# Altium footprint library XAL50.PcbLib: 8 footprints
Each footprint in its own frame and in the unit in brackets; x right, y up, seen from the top. Pads: shape width x height; smd on the part's side, far side on the other; paste and mask are expansions set on the pad; w line width, h text height; cw(c..) or ccw(c..) is an arc to the next point about the centre after c.
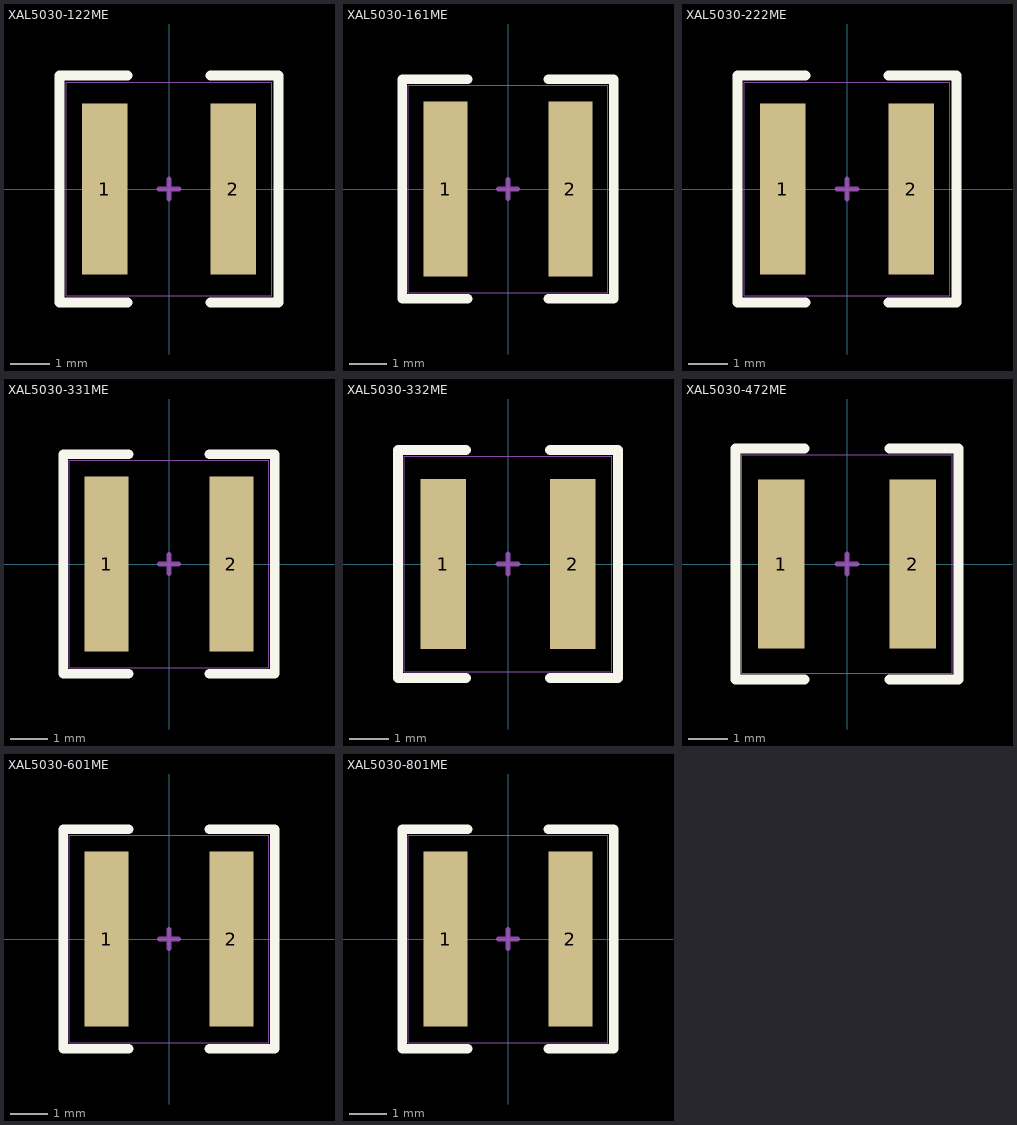
[diagram p0: the footprints below, top view; thin cyan lines are the x and y axes]

## XAL5030-122ME [mil]
pads (2):
  rect 46x173 smd: 1(-65,0) 2(65,0)
Top Overlay:
  lines w10: -42,-114.5 -110.5,-114.5 -110.5,114.5 -42,114.5 ; 42,-114.5 110.5,-114.5 110.5,114.5 42,114.5
Mechanical 13:
  lines w5: -10,0 10,0 ; 0,-10 0,10
Mechanical 14:
  lines w1: -104,-108 -104,108 104,108 104,-108 -104,-108
3D body: height 122.11, standoff 0.06, extent -107.88,-111.81 107.87,111.81

## XAL5030-161ME [mil]
pads (2):
  rect 46x183 smd: 1(-65,0) 2(65,0)
Top Overlay:
  lines w10: -42,-114.5 -110.5,-114.5 -110.5,114.5 -42,114.5 ; 42,-114.5 110.5,-114.5 110.5,114.5 42,114.5
Mechanical 13:
  lines w5: -10,0 10,0 ; 0,-10 0,10
Mechanical 14:
  lines w1: -104,-108 104,-108 104,108 -104,108 -104,-108
3D body: height 122.11, standoff 0.06, extent -107.88,-111.81 107.87,111.81

## XAL5030-222ME [mil]
pads (2):
  rect 46x173 smd: 1(-65,0) 2(65,0)
Top Overlay:
  lines w10: -42,-114.5 -110.5,-114.5 -110.5,114.5 -42,114.5 ; 42,-114.5 110.5,-114.5 110.5,114.5 42,114.5
Mechanical 13:
  lines w5: -10,0 10,0 ; 0,-10 0,10
Mechanical 14:
  lines w1: -104,-108 -104,108 104,108 104,-108 -104,-108
3D body: height 122.11, standoff 0.06, extent -107.88,-111.81 107.87,111.81

## XAL5030-331ME [mil]
pads (2):
  rect 46x183 smd: 1(-65,0) 2(65,0)
Top Overlay:
  lines w10: -42,-114.5 -110.5,-114.5 -110.5,114.5 -42,114.5 ; 42,-114.5 110.5,-114.5 110.5,114.5 42,114.5
Mechanical 13:
  lines w5: -10,0 10,0 ; 0,-10 0,10
Mechanical 14:
  lines w1: -104,-108 -104,108 104,108 104,-108 -104,-108
3D body: height 122.11, standoff 0.06, extent -107.88,-111.81 107.87,111.81

## XAL5030-332ME [mil]
pads (2):
  rect 46x171 smd: 1(-65,0) 2(65,0)
Top Overlay:
  lines w10: -42,-114.5 -110.5,-114.5 -110.5,114.5 -42,114.5 ; 42,-114.5 110.5,-114.5 110.5,114.5 42,114.5
Mechanical 13:
  lines w5: -10,0 10,0 ; 0,-10 0,10
Mechanical 14:
  lines w1: -104,-108 104,-108 104,108 -104,108 -104,-108
3D body: height 122.11, standoff 0.06, extent -107.88,-111.81 107.87,111.81

## XAL5030-472ME [mil]
pads (2):
  rect 46x167 smd: 1(-65,0) 2(65,0)
Top Overlay:
  lines w10: -42,-114.5 -110.5,-114.5 -110.5,114.5 -42,114.5 ; 42,-114.5 110.5,-114.5 110.5,114.5 42,114.5
Mechanical 13:
  lines w5: -10,0 10,0 ; 0,-10 0,10
Mechanical 14:
  lines w1: -104,-108 -104,108 104,108 104,-108 -104,-108
3D body: height 122.11, standoff 0.06, extent -107.88,-111.81 107.87,111.81

## XAL5030-601ME [mil]
pads (2):
  rect 46x183 smd: 1(-65,0) 2(65,0)
Top Overlay:
  lines w10: -42,-114.5 -110.5,-114.5 -110.5,114.5 -42,114.5 ; 42,-114.5 110.5,-114.5 110.5,114.5 42,114.5
Mechanical 13:
  lines w5: -10,0 10,0 ; 0,-10 0,10
Mechanical 14:
  lines w1: -104,-108 104,-108 104,108 -104,108 -104,-108
3D body: height 122.11, standoff 0.06, extent -107.88,-111.81 107.87,111.81

## XAL5030-801ME [mil]
pads (2):
  rect 46x183 smd: 1(-65,0) 2(65,0)
Top Overlay:
  lines w10: -42,-114.5 -110.5,-114.5 -110.5,114.5 -42,114.5 ; 42,-114.5 110.5,-114.5 110.5,114.5 42,114.5
Mechanical 13:
  lines w5: -10,0 10,0 ; 0,-10 0,10
Mechanical 14:
  lines w1: -104,-108 104,-108 104,108 -104,108 -104,-108
3D body: height 122.11, standoff 0.06, extent -107.88,-111.81 107.87,111.81